# EAGLE library part RXB1 (library PracticalArduino)
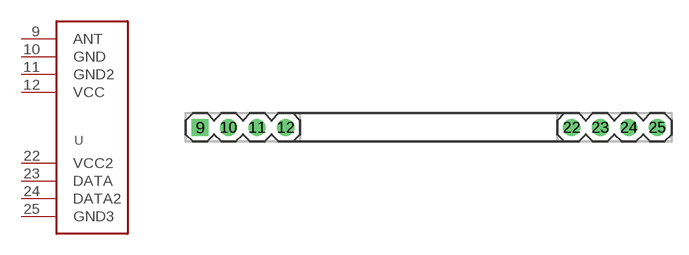
[diagram p1: symbol with the pads of RX-B1; footprint RX-B1]

Designator prefix -

## RXB1SIL  [RX-B1]
9  ANT
10  GND
11  GND2
12  VCC
22  VCC2
23  DATA
24  DATA2
25  GND3

## Footprint RX-B1 (pad centres in mm)
drill 1.016 square: 9 -19.05,0
drill 1.016 round: 10 -16.51,0; 11 -13.97,0; 12 -11.43,0; 22 13.97,0; 23 16.51,0; 24 19.05,0; 25 21.59,0